# Altium schematic symbol library SN65DSI83.SchLib: 1 symbol
Pins are listed as number, name and electrical type; pins without a type are passive.

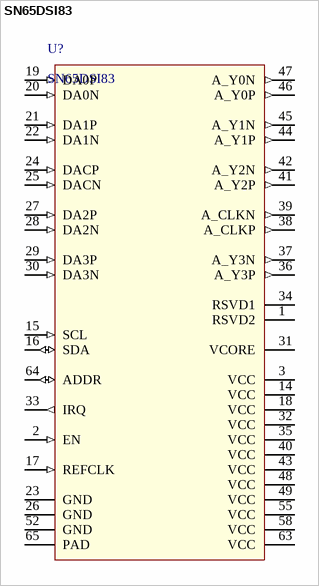
[diagram p0: symbol SN65DSI83]

## SN65DSI83
designator U?
Single-Channel MIPI® DSI to Single-Link LVDS Bridge; value: SN65DSI83
footprint HPM064_N (64-Pin Thin Quad Flat Pack 0.5 mm Pitch, IPC Medium Density)
pins: 1 RSVD2, 2 EN (in), 3 VCC (power), 14 VCC (power), 15 SCL (in), 16 SDA (io), 17 REFCLK (in), 18 VCC (power), 19 DA0P (in), 20 DA0N (in), 21 DA1P (in), 22 DA1N (in), 23 GND (power), 24 DACP (in), 25 DACN (in), 26 GND (power), 27 DA2P (in), 28 DA2N (in), 29 DA3P (in), 30 DA3N (in), 31 VCORE (power), 32 VCC (power), 33 IRQ (out), 34 RSVD1, 35 VCC (power), 36 A_Y3P (out), 37 A_Y3N (out), 38 A_CLKP (out), 39 A_CLKN (out), 40 VCC (power), 41 A_Y2P (out), 42 A_Y2N (out), 43 VCC (power), 44 A_Y1P (out), 45 A_Y1N (out), 46 A_Y0P (out), 47 A_Y0N (out), 48 VCC (power), 49 VCC (power), 52 GND (power), 55 VCC (power), 58 VCC (power), 63 VCC (power), 64 ADDR (io), 65 PAD (power)